# Altium schematic symbol library Inverting buck boost.SchLib: 104 symbols (part 6 of 9)
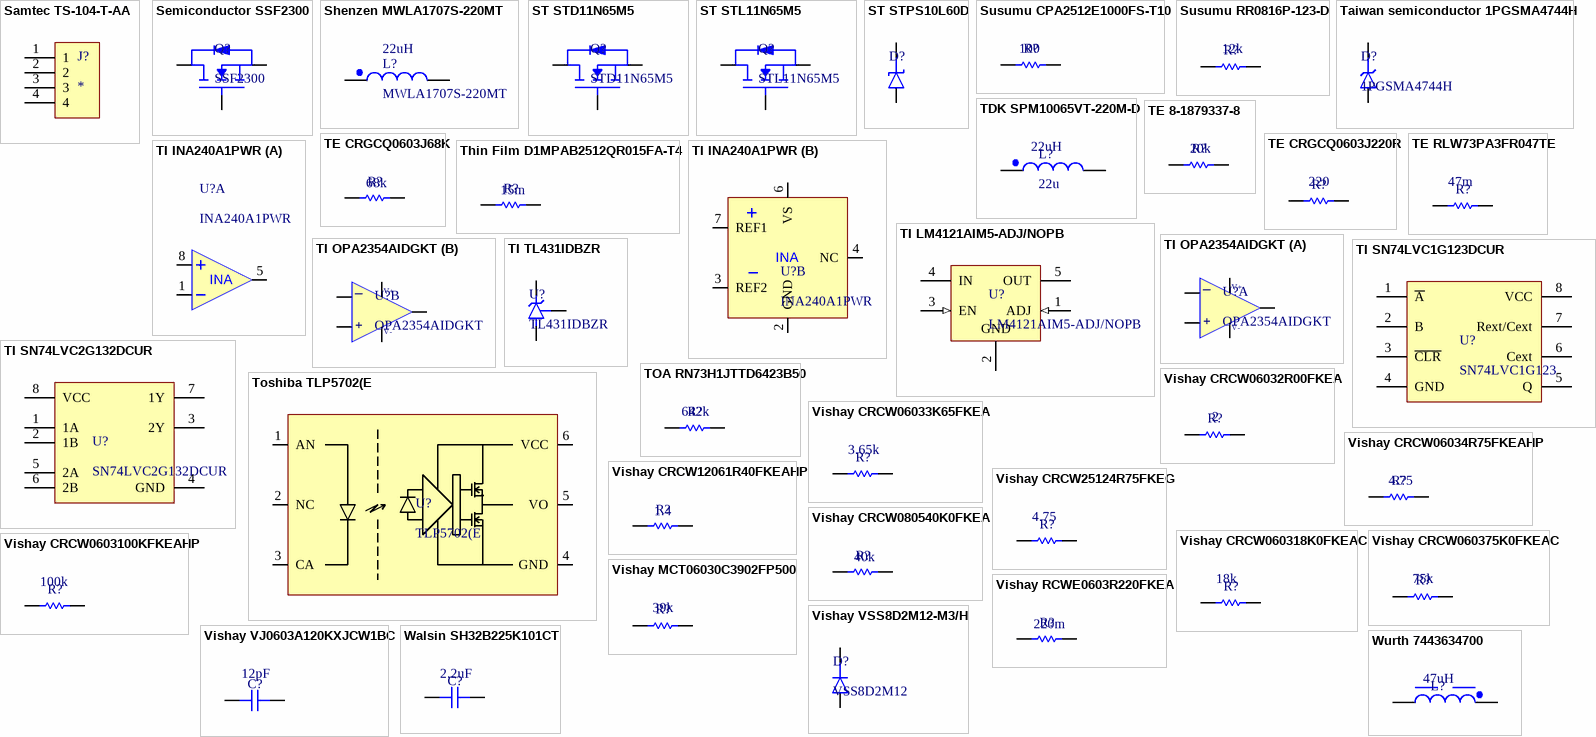
[diagram p7: symbols Samtec TS-104-T-AA to Wurth 7443634700]

## Vishay CRCW06033K65FKEA
designator R?, comment Resistance: 3.65k  (hidden comment: CRCW06033K65FKEA)
Res Thick Film 0603 3.65K Ohm 1% 1/10W ±100ppm/°C Molded SMD Paper T/R; Manufacturer: Vishay; Max Power Dissipation: 100mW; Voltage Rating: 75V; Supplier: Farnell; Supplier Part Number: CRCW06033K65FKEA; Manufacturer Part Number: CRCW06033K65FKEA; RoHS: Compliant; Category: Chip SMD Resistors; Stock: 17428; Pricing: 10=0,0179, 100=0,013, 500=0,0105, 1000=0,0096, 2500=0,0087 (GBP); Case/Package: 0603; Case Code (Imperial): 0603; China RoHS: Non-Compliant; Composition: Thick Film; Contact Plating: Tin; Country of Origin: Israel, Taiwan; Depth: 850µm; Export Control Classification Number (ECCN) Code: EAR99; Features: Automotive AEC-Q200; Height: 450µm; Harmonized Tariff Schedule (HTS) Code: 8533.21.00.30; Introduction Date: 2005-02-16; Lead Free: Lead Free; Length: 1.55mm; Lifecycle Status: Production; Max Operating Temperature: 155°C; Military Standard: Not; Min Operating Temperature: -55°C; Mounting Technology: Surface Mount; Pins: 2; Number of Terminals: 2; Number of Terminations: 2; Power Rating: 100mW; Radiation Hardening: No; Ratings: AEC-Q200; REACH SVHC: Yes; Schedule B: 8533210045, 8533210045|8533210045, 8533210045|8533210045|8533210045, 8533210045|8533210045|8533210045|8533210045; Temperature Coefficient: 100ppm/°C; Termination: SMD/SMT; Tolerance: 1%; Weight: 2.012816mg; Width: 850µm; Working Voltage: 75V; ComponentLink1URL: https://datasheet.octopart.com:443/CRCW06033K65FKEA-Vishay-datasheet-175423584.pdf?src-supplier=IHS; ComponentLink1Description: https://datasheet.octopart.com:443/CRCW06033K65FKEA-Vishay-datasheet-175423584.pdf?src-supplier=IHS; ComponentLink2URL: https://datasheet.octopart.com:443/CRCW06033K65FKEA-Vishay-datasheet-62316122.pdf?src-supplier=Future+Electronics; ComponentLink2Description: https://datasheet.octopart.com:443/CRCW06033K65FKEA-Vishay-datasheet-62316122.pdf?src-supplier=Future+Electronics; ComponentLink3URL: https://datasheet.octopart.com:443/CRCW06033K65FKEA-Vishay-datasheet-5300368.pdf?src-supplier=Future+Electronics; ComponentLink3Description: https://datasheet.octopart.com:443/CRCW06033K65FKEA-Vishay-datasheet-5300368.pdf?src-supplier=Future+Electronics; ComponentLink4URL: https://datasheet.octopart.com:443/CRCW06033K65FKEA-Vishay-datasheet-83961561.pdf?src-supplier=element14+APAC; ComponentLink4Description: https://datasheet.octopart.com:443/CRCW06033K65FKEA-Vishay-datasheet-83961561.pdf?src-supplier=element14+APAC; ComponentLink5URL: https://datasheet.octopart.com:443/CRCW06033K65FKEA-Vishay-datasheet-66077789.pdf?src-supplier=element14+APAC; ComponentLink5Description: https://datasheet.octopart.com:443/CRCW06033K65FKEA-Vishay-datasheet-66077789.pdf?src-supplier=element14+APAC; ComponentLink6URL: https://datasheet.octopart.com:443/CRCW06033K65FKEA-Vishay-datasheet-62317933.pdf?src-supplier=element14+APAC; ComponentLink6Description: https://datasheet.octopart.com:443/CRCW06033K65FKEA-Vishay-datasheet-62317933.pdf?src-supplier=element14+APAC; ComponentLink7URL: https://datasheet.octopart.com:443/CRCW06033K65FKEA-Vishay-datasheet-14722531.pdf?src-supplier=element14+APAC; ComponentLink7Description: https://datasheet.octopart.com:443/CRCW06033K65FKEA-Vishay-datasheet-14722531.pdf?src-supplier=element14+APAC; ComponentLink8URL: https://datasheet.octopart.com:443/CRCW06033K65FKEA-Vishay-datasheet-5299586.pdf?src-supplier=element14+APAC; ComponentLink8Description: https://datasheet.octopart.com:443/CRCW06033K65FKEA-Vishay-datasheet-5299586.pdf?src-supplier=element14+APAC; ComponentLink9URL: https://datasheet.octopart.com:443/CRCW06033K65FKEA-Vishay-datasheet-10380026.pdf?src-supplier=element14+APAC; ComponentLink9Description: https://datasheet.octopart.com:443/CRCW06033K65FKEA-Vishay-datasheet-10380026.pdf?src-supplier=element14+APAC; ComponentLink10URL: https://datasheet.octopart.com:443/CRCW06033K65FKEA.-Vishay-datasheet-78776209.pdf?src-supplier=Newark; ComponentLink10Description: https://datasheet.octopart.com:443/CRCW06033K65FKEA.-Vishay-datasheet-78776209.pdf?src-supplier=Newark; ComponentLink11URL: https://datasheet.octopart.com:443/CRCW06033K65FKEA-Vishay-datasheet-11761042.pdf?src-supplier=Newark; ComponentLink11Description: https://datasheet.octopart.com:443/CRCW06033K65FKEA-Vishay-datasheet-11761042.pdf?src-supplier=Newark; ComponentLink12URL: https://datasheet.octopart.com:443/CRCW06033K65FKEA-Vishay-datasheet-11516975.pdf?src-supplier=Newark; ComponentLink12Description: https://datasheet.octopart.com:443/CRCW06033K65FKEA-Vishay-datasheet-11516975.pdf?src-supplier=Newark; ComponentLink13URL: https://datasheet.octopart.com:443/CRCW06033K65FKEA-Vishay-datasheet-41302739.pdf?src-supplier=Newark; ComponentLink13Description: https://datasheet.octopart.com:443/CRCW06033K65FKEA-Vishay-datasheet-41302739.pdf?src-supplier=Newark; ComponentLink14URL: https://datasheet.octopart.com:443/CRCW06033K65FKEA-Vishay-datasheet-33013972.pdf?src-supplier=Newark; ComponentLink14Description: https://datasheet.octopart.com:443/CRCW06033K65FKEA-Vishay-datasheet-33013972.pdf?src-supplier=Newark; ComponentLink15URL: https://datasheet.octopart.com:443/CRCW06033K65FKEA-Vishay-datasheet-21226360.pdf?src-supplier=Newark; ComponentLink15Description: https://datasheet.octopart.com:443/CRCW06033K65FKEA-Vishay-datasheet-21226360.pdf?src-supplier=Newark; ComponentLink16URL: https://datasheet.octopart.com:443/CRCW06033K65FKEA-Vishay-datasheet-137114303.pdf?src-supplier=X-ON; ComponentLink16Description: https://datasheet.octopart.com:443/CRCW06033K65FKEA-Vishay-datasheet-137114303.pdf?src-supplier=X-ON; ComponentLink17URL: https://datasheet.octopart.com:443/CRCW06033K65FKEA-Vishay-Dale-datasheet-47688880.pdf?src-supplier=RS+(Formerly+Allied+Electronics); ComponentLink17Description: https://datasheet.octopart.com:443/CRCW06033K65FKEA-Vishay-Dale-datasheet-47688880.pdf?src-supplier=RS+(Formerly+Allied+Electronics); ComponentLink18URL: https://datasheet.octopart.com:443/CRCW06033K65FKEA-Vishay-datasheet-12001583.pdf?src-supplier=RS+(Formerly+Allied+Electronics); ComponentLink18Description: https://datasheet.octopart.com:443/CRCW06033K65FKEA-Vishay-datasheet-12001583.pdf?src-supplier=RS+(Formerly+Allied+Electronics); ComponentLink19URL: https://datasheet.octopart.com:443/CRCW06033K65FKEA-Vishay-datasheet-5306405.pdf?src-supplier=RS+(Formerly+Allied+Electronics); ComponentLink19Description: https://datasheet.octopart.com:443/CRCW06033K65FKEA-Vishay-datasheet-5306405.pdf?src-supplier=RS+(Formerly+Allied+Electronics); ComponentLink20URL: https://datasheet.octopart.com/D-CRCW-e3-Standard-Thick-Film-Chip-Resistors-Vishay-datasheet-family-64.pdf; ComponentLink20Description: https://datasheet.octopart.com/D-CRCW-e3-Standard-Thick-Film-Chip-Resistors-Vishay-datasheet-family-64.pdf; ComponentLink21URL: https://datasheet.octopart.com:443/CRCW06033K65FKEA-Vishay-datasheet-11540273.pdf?src-supplier=Arrow+Electronics; ComponentLink21Description: https://datasheet.octopart.com:443/CRCW06033K65FKEA-Vishay-datasheet-11540273.pdf?src-supplier=Arrow+Electronics; ComponentLink22URL: https://datasheet.octopart.com:443/CRCW06033K65FKEA-Vishay-datasheet-8445837.pdf?src-supplier=element14; ComponentLink22Description: https://datasheet.octopart.com:443/CRCW06033K65FKEA-Vishay-datasheet-8445837.pdf?src-supplier=element14; ComponentLink23URL: https://datasheet.octopart.com:443/CRCW06033K65FKEA-Vishay-datasheet-5377433.pdf?src-supplier=Garrett; ComponentLink23Description: https://datasheet.octopart.com:443/CRCW06033K65FKEA-Vishay-datasheet-5377433.pdf?src-supplier=Garrett; ComponentLink24URL: https://datasheet.octopart.com:443/CRCW06033K65FKEA-Vishay-datasheet-148188.pdf?src-supplier=Garrett; ComponentLink24Description: https://datasheet.octopart.com:443/CRCW06033K65FKEA-Vishay-datasheet-148188.pdf?src-supplier=Garrett; ComponentLink25URL: https://datasheet.octopart.com:443/CRCW06033K65FKEA-Vishay-datasheet-30224.pdf?src-supplier=Garrett; ComponentLink25Description: https://datasheet.octopart.com:443/CRCW06033K65FKEA-Vishay-datasheet-30224.pdf?src-supplier=Garrett; ComponentLink26URL: http://sigma.octopart.com:80/rohs_certificate/D-CRCW-e3-Standard-Thick-Film-Chip-Resistors-Vishay-family-102.pdf?src-supplier=Compliance+Statements; ComponentLink26Description: http://sigma.octopart.com:80/rohs_certificate/D-CRCW-e3-Standard-Thick-Film-Chip-Resistors-Vishay-family-102.pdf?src-supplier=Compliance+Statements
footprint res_0603
pins: 1, 2

## Vishay CRCW06034R75FKEAHP
designator R?, comment value 4.75  (hidden comment: CRCW06034R75FKEAHP)
Fixed Resistor, Metal Glaze/thick Film, 0.33W, 4.75ohm, 75V, 1% +/-Tol, 100ppm/Cel, Surface Mount, 0603; Manufacturer: Vishay; Max Power Dissipation: 250mW; Power Rating: 330mW; Temperature Coefficient: 100ppm/°C; Supplier: Future Electronics; Supplier Part Number: CRCW06034R75FKEAHP; Manufacturer Part Number: CRCW06034R75FKEAHP; RoHS: Compliant; Category: Chip SMD Resistors; Stock: 75000; Pricing: 5000=0,0456, 10000=0,0449, 20000=0,0442, 25000=0,044, 75000=0,0426 (USD); Case/Package: 0603; China RoHS: Non-Compliant; Composition: Thick Film; Features: Automotive AEC-Q200; Height: 450µm; Lead Free: Lead Free; Length: 1.6mm; Lifecycle Status: Production; Max Operating Temperature: 155°C; Min Operating Temperature: -55°C; Mounting Technology: Surface Mount; Number of Terminals: 2; Number of Terminations: 2; Packaging: Tape & Reel (TR); Ratings: AEC-Q200; REACH SVHC: Yes; Tolerance: 1%; Voltage Rating: 75V; Width: 850µm; Working Voltage: 75V; ComponentLink1URL: https://datasheet.octopart.com:443/CRCW06034R75FKEAHP-Vishay-datasheet-13148866.pdf?src-supplier=Upverter; ComponentLink1Description: https://datasheet.octopart.com:443/CRCW06034R75FKEAHP-Vishay-datasheet-13148866.pdf?src-supplier=Upverter; ComponentLink2URL: https://datasheet.octopart.com:443/CRCW06034R75FKEAHP-Vishay-datasheet-13131392.pdf?src-supplier=Upverter; ComponentLink2Description: https://datasheet.octopart.com:443/CRCW06034R75FKEAHP-Vishay-datasheet-13131392.pdf?src-supplier=Upverter; ComponentLink3URL: https://datasheet.octopart.com:443/CRCW06034R75FKEAHP-Vishay-datasheet-12593106.pdf?src-supplier=Upverter; ComponentLink3Description: https://datasheet.octopart.com:443/CRCW06034R75FKEAHP-Vishay-datasheet-12593106.pdf?src-supplier=Upverter; ComponentLink4URL: https://datasheet.octopart.com:443/CRCW06034R75FKEAHP-Vishay-datasheet-12544674.pdf?src-supplier=Upverter; ComponentLink4Description: https://datasheet.octopart.com:443/CRCW06034R75FKEAHP-Vishay-datasheet-12544674.pdf?src-supplier=Upverter; ComponentLink5URL: https://datasheet.octopart.com:443/CRCW06034R75FKEAHP-Vishay-datasheet-12531795.pdf?src-supplier=Upverter; ComponentLink5Description: https://datasheet.octopart.com:443/CRCW06034R75FKEAHP-Vishay-datasheet-12531795.pdf?src-supplier=Upverter; ComponentLink6URL: https://datasheet.octopart.com:443/CRCW06034R75FKEAHP-Vishay-datasheet-12518686.pdf?src-supplier=Upverter; ComponentLink6Description: https://datasheet.octopart.com:443/CRCW06034R75FKEAHP-Vishay-datasheet-12518686.pdf?src-supplier=Upverter; ComponentLink7URL: https://datasheet.octopart.com:443/CRCW06034R75FKEAHP-Vishay-datasheet-12509906.pdf?src-supplier=Upverter; ComponentLink7Description: https://datasheet.octopart.com:443/CRCW06034R75FKEAHP-Vishay-datasheet-12509906.pdf?src-supplier=Upverter; ComponentLink8URL: https://datasheet.octopart.com:443/CRCW06034R75FKEAHP-Vishay-datasheet-10669844.pdf?src-supplier=Upverter; ComponentLink8Description: https://datasheet.octopart.com:443/CRCW06034R75FKEAHP-Vishay-datasheet-10669844.pdf?src-supplier=Upverter; ComponentLink9URL: https://datasheet.octopart.com:443/CRCW06034R75FKEAHP-Vishay-datasheet-8703221.pdf?src-supplier=Upverter; ComponentLink9Description: https://datasheet.octopart.com:443/CRCW06034R75FKEAHP-Vishay-datasheet-8703221.pdf?src-supplier=Upverter; ComponentLink10URL: https://datasheet.octopart.com/CRCW06034R75FKEAHP-Vishay-datasheet-83567917.pdf; ComponentLink10Description: https://datasheet.octopart.com/CRCW06034R75FKEAHP-Vishay-datasheet-83567917.pdf; ComponentLink11URL: https://datasheet.octopart.com:443/CRCW06034R75FKEAHP-Vishay-datasheet-62316122.pdf?src-supplier=Future+Electronics; ComponentLink11Description: https://datasheet.octopart.com:443/CRCW06034R75FKEAHP-Vishay-datasheet-62316122.pdf?src-supplier=Future+Electronics; ComponentLink12URL: http://sigma.octopart.com:80/rohs_statement/Vishay-company-15.pdf?src-supplier=Compliance+Statements; ComponentLink12Description: http://sigma.octopart.com:80/rohs_statement/Vishay-company-15.pdf?src-supplier=Compliance+Statements
footprint res_0603
pins: 1, 2

## Vishay CRCW12061R40FKEAHP
designator R?, comment Resistance: 1.4  (hidden comment: CRCW12061R40FKEAHP)
Res Thick Film 1206 1.4 Ohm 1% 0.75W(3/4W) ±100ppm/C Pad SMD Automotive T/R; Manufacturer: Vishay; Max Power Dissipation: 500mW; Power Rating: 750mW; Temperature Coefficient: 100ppm/°C; Voltage Rating: 200V; Supplier: Future Electronics; Supplier Part Number: CRCW12061R40FKEAHP; Manufacturer Part Number: CRCW12061R40FKEAHP; RoHS: Compliant; Category: Chip SMD Resistors; Stock: 5000; Pricing: 5000=0,0554, 10000=0,0545, 15000=0,054, 20000=0,0536, 25000=0,0524 (USD); Case/Package: 1206; Case Code (Imperial): 1206; Case Code (Metric): 3216; China RoHS: Non-Compliant; Composition: Thick Film; Features: Automotive AEC-Q200; Height: 500µm; Lead Free: Lead Free; Length: 3.1mm; Lifecycle Status: Production; Max Operating Temperature: 155°C; Min Operating Temperature: -55°C; Mounting Technology: Surface Mount; Number of Terminals: 2; Number of Terminations: 2; Packaging: Cut Tape (CT); Ratings: AEC-Q200; REACH SVHC: Yes; Schedule B: 8533210045, 8533210045|8533210045|8533210045|8533210045|8533210045; Tolerance: 1%; Width: 1.6mm; Working Voltage: 200V; ComponentLink1URL: https://datasheet.octopart.com:443/CRCW12061R40FKEAHP-Vishay-datasheet-83567917.pdf?src-supplier=Upverter; ComponentLink1Description: https://datasheet.octopart.com:443/CRCW12061R40FKEAHP-Vishay-datasheet-83567917.pdf?src-supplier=Upverter; ComponentLink2URL: https://datasheet.octopart.com:443/CRCW12061R40FKEAHP-Vishay-datasheet-62316122.pdf?src-supplier=Future+Electronics; ComponentLink2Description: https://datasheet.octopart.com:443/CRCW12061R40FKEAHP-Vishay-datasheet-62316122.pdf?src-supplier=Future+Electronics; ComponentLink3URL: https://datasheet.octopart.com/D-CRCW-e3-Standard-Thick-Film-Chip-Resistors-Vishay-datasheet-family-64.pdf; ComponentLink3Description: https://datasheet.octopart.com/D-CRCW-e3-Standard-Thick-Film-Chip-Resistors-Vishay-datasheet-family-64.pdf; ComponentLink4URL: http://sigma.octopart.com:80/rohs_certificate/D-CRCW-e3-Standard-Thick-Film-Chip-Resistors-Vishay-family-102.pdf?src-supplier=Compliance+Statements; ComponentLink4Description: http://sigma.octopart.com:80/rohs_certificate/D-CRCW-e3-Standard-Thick-Film-Chip-Resistors-Vishay-family-102.pdf?src-supplier=Compliance+Statements
footprint res_1206
pins: 1, 2

## Vishay CRCW25124R75FKEG
designator R?, comment Resistance: 4.75  (hidden comment: CRCW25124R75FKEG)
Res Thick Film 2512 4.75 Ohm 1% 1W ±100ppm/C Pad SMD Automotive T/R; Manufacturer: Vishay; Temperature Coefficient: 100ppm/°C; Voltage Rating: 500V; Supplier: Arrow Electronics; Supplier Part Number: CRCW25124R75FKEG; Manufacturer Part Number: CRCW25124R75FKEG; RoHS: Compliant; Category: Chip SMD Resistors; Stock: 5; Pricing: 1=0,0324 (USD); Case/Package: 2512; Case Code (Imperial): 2512; Case Code (Metric): 6432; China RoHS: Non-Compliant; Composition: Thick Film; Contact Plating: Tin; Features: Automotive AEC-Q200; Height: 600µm; Lead Free: Lead Free; Length: 6.3mm; Lifecycle Status: Production; Max Operating Temperature: 155°C; Max Power Dissipation: 1W; Min Operating Temperature: -55°C; Mounting Technology: Surface Mount; Number of Terminals: 2; Number of Terminations: 2; Packaging: Tape & Reel (TR); Power Rating: 1W; Ratings: AEC-Q200; REACH SVHC: Yes; Schedule B: 8533210045, 8533210045|8533210045, 8533210045|8533210045|8533210045, 8533210045|8533210045|8533210045|8533210045; Tolerance: 1%; Width: 3.15mm; Working Voltage: 500V; ComponentLink1URL: https://datasheet.octopart.com:443/CRCW25124R75FKEG-Vishay-datasheet-175423584.pdf?src-supplier=IHS; ComponentLink1Description: https://datasheet.octopart.com:443/CRCW25124R75FKEG-Vishay-datasheet-175423584.pdf?src-supplier=IHS; ComponentLink2URL: https://datasheet.octopart.com:443/CRCW25124R75FKEG-Vishay-datasheet-62316122.pdf?src-supplier=Future+Electronics; ComponentLink2Description: https://datasheet.octopart.com:443/CRCW25124R75FKEG-Vishay-datasheet-62316122.pdf?src-supplier=Future+Electronics; ComponentLink3URL: http://sigma.octopart.com:80/rohs_statement/Vishay-company-15.pdf?src-supplier=Compliance+Statements; ComponentLink3Description: http://sigma.octopart.com:80/rohs_statement/Vishay-company-15.pdf?src-supplier=Compliance+Statements
footprint RES_2510
pins: 1, 2

## Vishay CRCW060318K0FKEAC
designator R?, comment Resistance: 18k  (hidden comment: CRCW060318K0FKEAC)
CRCW Thick Film Commodity Chip Resistor 0603 Size 18K Ohm 1% 0.1 W 100 ppm/K 2-Pin SMD Paper T/R; Manufacturer: Vishay; Power Rating: 100mW; Temperature Coefficient: 100ppm/°C; Working Voltage: 75V; Supplier: Farnell; Supplier Part Number: CRCW060318K0FKEAC; Manufacturer Part Number: CRCW060318K0FKEAC; RoHS: Compliant; Category: Chip SMD Resistors; Stock: 83050; Pricing: 10=0,0129, 100=0,0106, 500=0,0076, 1000=0,0056, 2500=0,0051, 5000=0,0045 (GBP); Case/Package: 0603; China RoHS: Non-Compliant; Height: 450µm; Lead Free: Lead Free; Length: 1.6mm; Lifecycle Status: Production; Max Operating Temperature: 155°C; Min Operating Temperature: -55°C; Mounting Technology: Surface Mount; Number of Terminals: 2; REACH SVHC: Yes; Tolerance: 1%; Width: 800µm; ComponentLink1URL: https://datasheet.octopart.com:443/CRCW060318K0FKEAC-Vishay-datasheet-175423585.pdf?src-supplier=Newark; ComponentLink1Description: https://datasheet.octopart.com:443/CRCW060318K0FKEAC-Vishay-datasheet-175423585.pdf?src-supplier=Newark; ComponentLink2URL: http://sigma.octopart.com:80/rohs_statement/Vishay-company-15.pdf?src-supplier=Compliance+Statements; ComponentLink2Description: http://sigma.octopart.com:80/rohs_statement/Vishay-company-15.pdf?src-supplier=Compliance+Statements
footprint res_0603
pins: 1, 2

## Vishay CRCW060375K0FKEAC
designator R?, comment Resistance: 75k  (hidden comment: CRCW060375K0FKEAC)
Trans Mosfet N-ch 20V 4.5A 3-PIN SOT-23 T/r; Manufacturer: Vishay; Power Rating: 100mW; Temperature Coefficient: 100ppm/°C; Tolerance: 1%; Working Voltage: 75V; Voltage Rating (DC): 50V; Supplier: DigiKey; Supplier Part Number: 541-5552-1-ND; Manufacturer Part Number: CRCW060375K0FKEAC; RoHS: Compliant; Category: Chip SMD Resistors; Stock: 204017; Pricing: 1=0,1, 10=0,031, 25=0,0228, 50=0,0186, 100=0,0152, 250=0,01188, 500=0,010, 1000=0,00851 (USD); Case/Package: 0603; China RoHS: Non-Compliant; Height: 450µm; Lead Free: Lead Free; Length: 1.6mm; Lifecycle Status: Production; Max Operating Temperature: 155°C; Min Operating Temperature: -55°C; Mounting Technology: Surface Mount; Number of Terminals: 2; REACH SVHC: Yes; Schedule B: 8533210045, 8533210045|8533210045|8533210045|8533210045|8533210045; Width: 800µm; ComponentLink1URL: https://datasheet.octopart.com:443/CRCW060375K0FKEAC-Vishay-datasheet-175423585.pdf?src-supplier=Newark; ComponentLink1Description: https://datasheet.octopart.com:443/CRCW060375K0FKEAC-Vishay-datasheet-175423585.pdf?src-supplier=Newark; ComponentLink2URL: https://datasheet.octopart.com:443/CRCW060375K0FKEAC-Vishay-datasheet-100063072.pdf?src-supplier=Future+Electronics; ComponentLink2Description: https://datasheet.octopart.com:443/CRCW060375K0FKEAC-Vishay-datasheet-100063072.pdf?src-supplier=Future+Electronics; ComponentLink3URL: https://datasheet.octopart.com:443/CRCW060375K0FKEAC-Vishay-datasheet-62316122.pdf?src-supplier=Future+Electronics; ComponentLink3Description: https://datasheet.octopart.com:443/CRCW060375K0FKEAC-Vishay-datasheet-62316122.pdf?src-supplier=Future+Electronics; ComponentLink4URL: http://sigma.octopart.com:80/rohs_statement/Vishay-company-15.pdf?src-supplier=Compliance+Statements; ComponentLink4Description: http://sigma.octopart.com:80/rohs_statement/Vishay-company-15.pdf?src-supplier=Compliance+Statements; Case Code (Imperial): 0603; Composition: Thick Film; Contact Plating: Tin; Country of Origin: Mainland China, Taiwan; Depth: 800µm; Export Control Classification Number (ECCN) Code: EAR99; Features: Moisture Resistant; Harmonized Tariff Schedule (HTS) Code: 8533.21.00.30; Introduction Date: 2004-10-04; Max Power Dissipation: 100mW; Military Standard: Not; Pins: 2; Number of Terminations: 2; Packaging: Tape & Reel; Radiation Hardening: No; Termination: SMD/SMT; Voltage Rating: 75V; ComponentLink5URL: https://datasheet.octopart.com:443/RC0603FR-0715KL-Yageo-datasheet-175887523.pdf?src-supplier=Newark; ComponentLink5Description: https://datasheet.octopart.com:443/RC0603FR-0715KL-Yageo-datasheet-175887523.pdf?src-supplier=Newark; ComponentLink6URL: https://datasheet.octopart.com:443/RC0603FR-0715KL-Yageo-datasheet-8328172.pdf?src-supplier=Newark; ComponentLink6Description: https://datasheet.octopart.com:443/RC0603FR-0715KL-Yageo-datasheet-8328172.pdf?src-supplier=Newark; ComponentLink7URL: https://datasheet.octopart.com:443/RC0603FR-0715KL-Yageo-datasheet-62067350.pdf?src-supplier=element14+APAC; ComponentLink7Description: https://datasheet.octopart.com:443/RC0603FR-0715KL-Yageo-datasheet-62067350.pdf?src-supplier=element14+APAC; ComponentLink8URL: https://datasheet.octopart.com:443/RC0603FR-0715KL-Yageo-datasheet-103092701.pdf?src-supplier=Upverter; ComponentLink8Description: https://datasheet.octopart.com:443/RC0603FR-0715KL-Yageo-datasheet-103092701.pdf?src-supplier=Upverter; ComponentLink9URL: https://datasheet.octopart.com:443/RC0603FR-0715KL-Yageo-datasheet-34211833.pdf?src-supplier=Farnell; ComponentLink9Description: https://datasheet.octopart.com:443/RC0603FR-0715KL-Yageo-datasheet-34211833.pdf?src-supplier=Farnell; ComponentLink10URL: https://datasheet.octopart.com:443/RC0603FR-0715KL-Yageo-Group-datasheet-176638170.pdf?src-supplier=Future+Electronics; ComponentLink10Description: https://datasheet.octopart.com:443/RC0603FR-0715KL-Yageo-Group-datasheet-176638170.pdf?src-supplier=Future+Electronics; ComponentLink11URL: https://datasheet.octopart.com:443/RC0603FR-0715KL-Yageo-datasheet-164759695.pdf?src-supplier=Future+Electronics; ComponentLink11Description: https://datasheet.octopart.com:443/RC0603FR-0715KL-Yageo-datasheet-164759695.pdf?src-supplier=Future+Electronics; ComponentLink12URL: https://datasheet.octopart.com:443/RC0603FR-0715KL-Yageo-datasheet-137700087.pdf?src-supplier=Future+Electronics; ComponentLink12Description: https://datasheet.octopart.com:443/RC0603FR-0715KL-Yageo-datasheet-137700087.pdf?src-supplier=Future+Electronics; ComponentLink13URL: https://datasheet.octopart.com:443/RC0603FR-0715KL-Yageo-datasheet-27584510.pdf?src-supplier=Future+Electronics; ComponentLink13Description: https://datasheet.octopart.com:443/RC0603FR-0715KL-Yageo-datasheet-27584510.pdf?src-supplier=Future+Electronics; ComponentLink14URL: https://datasheet.octopart.com:443/RC0603FR-0715KL-Yageo-datasheet-15599030.pdf?src-supplier=Future+Electronics; ComponentLink14Description: https://datasheet.octopart.com:443/RC0603FR-0715KL-Yageo-datasheet-15599030.pdf?src-supplier=Future+Electronics; ComponentLink15URL: https://datasheet.octopart.com:443/RC0603FR-0715KL-Yageo-datasheet-12596169.pdf?src-supplier=Future+Electronics; ComponentLink15Description: https://datasheet.octopart.com:443/RC0603FR-0715KL-Yageo-datasheet-12596169.pdf?src-supplier=Future+Electronics; ComponentLink16URL: https://datasheet.octopart.com:443/RC0603FR-0715KL-Yageo-datasheet-8324193.pdf?src-supplier=Future+Electronics; ComponentLink16Description: https://datasheet.octopart.com:443/RC0603FR-0715KL-Yageo-datasheet-8324193.pdf?src-supplier=Future+Electronics; ComponentLink17URL: https://datasheet.octopart.com/RC0603FR-0715KL-Yageo-datasheet-73766026.pdf; ComponentLink17Description: https://datasheet.octopart.com/RC0603FR-0715KL-Yageo-datasheet-73766026.pdf; ComponentLink18URL: https://datasheet.octopart.com:443/RC0603FR-0715KL-Yageo-datasheet-118562.pdf?src-supplier=DigiKey; ComponentLink18Description: https://datasheet.octopart.com:443/RC0603FR-0715KL-Yageo-datasheet-118562.pdf?src-supplier=DigiKey; ComponentLink19URL: http://sigma.octopart.com:80/conflict_mineral_statement/Yageo-company-3.pdf?src-supplier=Compliance+Statements; ComponentLink19Description: http://sigma.octopart.com:80/conflict_mineral_statement/Yageo-company-3.pdf?src-supplier=Compliance+Statements; ComponentLink20URL: http://sigma.octopart.com:80/rohs_statement/Yageo-company-2.pdf?src-supplier=Compliance+Statements; ComponentLink20Description: http://sigma.octopart.com:80/rohs_statement/Yageo-company-2.pdf?src-supplier=Compliance+Statements
footprint Res_0603
pins: 1, 2

## Vishay CRCW080540K0FKEA
designator R?, comment Resistance: 40k  (hidden comment: CRCW080540K0FKEA)
Res Thick Film 0805 40K Ohm 1% 0.125W(1/8W) ±100ppm/C Pad SMD Automotive T/R; Manufacturer: Vishay; Manufacturer Package Identifier: CRCW0805-e3; Max Power Dissipation: 125mW; Temperature Coefficient: 100ppm/°C; Voltage Rating: 150V; Supplier: Farnell; Supplier Part Number: CRCW080540K0FKEA; Manufacturer Part Number: CRCW080540K0FKEA; RoHS: Compliant; Category: Chip SMD Resistors; Stock: 34055; Pricing: 10=0,0263, 100=0,0218, 500=0,0158, 1000=0,0135, 2500=0,012, 5000=0,0105 (GBP); Case/Package: 0805; China RoHS: Non-Compliant; Composition: Thick Film; Country of Origin: Israel; Export Control Classification Number (ECCN) Code: EAR99; Features: Automotive AEC-Q200; Height: 500µm; Harmonized Tariff Schedule (HTS) Code: 8533.21.00.30; Introduction Date: 2011-07-28; Lead Free: Lead Free; Length: 2.0066mm; Lifecycle Status: Production; Max Operating Temperature: 155°C; Min Operating Temperature: -55°C; Mounting Technology: Surface Mount; Number of Terminals: 2; Number of Terminations: 2; Packaging: Tape & Reel (TR); Power Rating: 125mW; Ratings: AEC-Q200; REACH SVHC: Yes; Tolerance: 1%; Width: 1.2446mm; Working Voltage: 150V; ComponentLink1URL: https://datasheet.octopart.com:443/CRCW080540K0FKEA-Vishay-datasheet-165471749.pdf?src-supplier=IHS; ComponentLink1Description: https://datasheet.octopart.com:443/CRCW080540K0FKEA-Vishay-datasheet-165471749.pdf?src-supplier=IHS; ComponentLink2URL: https://datasheet.octopart.com:443/CRCW080540K0FKEA-Vishay-datasheet-137115111.pdf?src-supplier=X-ON; ComponentLink2Description: https://datasheet.octopart.com:443/CRCW080540K0FKEA-Vishay-datasheet-137115111.pdf?src-supplier=X-ON; ComponentLink3URL: http://sigma.octopart.com:80/rohs_statement/Vishay-company-15.pdf?src-supplier=Compliance+Statements; ComponentLink3Description: http://sigma.octopart.com:80/rohs_statement/Vishay-company-15.pdf?src-supplier=Compliance+Statements
footprint Res_0805
pins: 1, 2

## Vishay CRCW0603100KFKEAHP
designator R?, comment Resistance: 100k  (hidden comment: CRCW0603100KFKEA)
Res Thick Film 0603 100K Ohm 1% 1/3W ±100ppm/°C Molded SMD SMD Paper T/R; Manufacturer: Vishay; Manufacturer Part Number: CRCW0603100KFKEAHP; Max Power Dissipation: 250mW; Power Rating: 330mW; Voltage Rating: 75V; Supplier: RS; Supplier Part Number: 8206745P; RoHS: Compliant; Category: Chip SMD Resistors; Stock: 5725; Pricing: 25=0,036 (EUR); Case/Package: 0603; Case Code (Imperial): 0603; Case Code (Metric): 1608; China RoHS: Non-Compliant; Composition: Thick Film; Contact Plating: Tin; Country of Origin: Israel; Depth: 850µm; Export Control Classification Number (ECCN) Code: EAR99; Features: Automotive AEC-Q200; Height: 450µm; Harmonized Tariff Schedule (HTS) Code: 8533.21.00.30; Introduction Date: 2008-07-29; Lead Free: Lead Free; Length: 1.6mm; Lifecycle Status: Production; Max Operating Temperature: 155°C; Military Standard: Not; Min Operating Temperature: -55°C; Mounting Technology: Surface Mount; Pins: 2; Number of Terminals: 2; Number of Terminations: 2; Packaging: Cut Tape; Radiation Hardening: No; Ratings: AEC-Q200; REACH SVHC: Yes; Schedule B: 8533210045, 8533210045|8533210045|8533210045|8533210045|8533210045; Temperature Coefficient: 100ppm/°C; Termination: SMD/SMT; Tolerance: 1%; Voltage Rating (DC): 75V; Weight: 2.012816mg; Width: 850µm; Working Voltage: 75V; ComponentLink1URL: https://datasheet.octopart.com:443/CRCW0603100KFKEAHP-Vishay-datasheet-13148866.pdf?src-supplier=Future+Electronics; ComponentLink1Description: https://datasheet.octopart.com:443/CRCW0603100KFKEAHP-Vishay-datasheet-13148866.pdf?src-supplier=Future+Electronics; ComponentLink2URL: https://datasheet.octopart.com:443/CRCW0603100KFKEAHP-Vishay-datasheet-13131392.pdf?src-supplier=Future+Electronics; ComponentLink2Description: https://datasheet.octopart.com:443/CRCW0603100KFKEAHP-Vishay-datasheet-13131392.pdf?src-supplier=Future+Electronics; ComponentLink3URL: https://datasheet.octopart.com:443/CRCW0603100KFKEAHP-Vishay-datasheet-12593106.pdf?src-supplier=Future+Electronics; ComponentLink3Description: https://datasheet.octopart.com:443/CRCW0603100KFKEAHP-Vishay-datasheet-12593106.pdf?src-supplier=Future+Electronics; ComponentLink4URL: https://datasheet.octopart.com:443/CRCW0603100KFKEAHP-Vishay-datasheet-12531795.pdf?src-supplier=Future+Electronics; ComponentLink4Description: https://datasheet.octopart.com:443/CRCW0603100KFKEAHP-Vishay-datasheet-12531795.pdf?src-supplier=Future+Electronics; ComponentLink5URL: https://datasheet.octopart.com:443/CRCW0603100KFKEAHP-Vishay-datasheet-12518686.pdf?src-supplier=Future+Electronics; ComponentLink5Description: https://datasheet.octopart.com:443/CRCW0603100KFKEAHP-Vishay-datasheet-12518686.pdf?src-supplier=Future+Electronics; ComponentLink6URL: https://datasheet.octopart.com:443/CRCW0603100KFKEAHP-Vishay-datasheet-12509906.pdf?src-supplier=Future+Electronics; ComponentLink6Description: https://datasheet.octopart.com:443/CRCW0603100KFKEAHP-Vishay-datasheet-12509906.pdf?src-supplier=Future+Electronics; ComponentLink7URL: https://datasheet.octopart.com:443/CRCW0603100KFKEAHP-Vishay-datasheet-10669844.pdf?src-supplier=Future+Electronics; ComponentLink7Description: https://datasheet.octopart.com:443/CRCW0603100KFKEAHP-Vishay-datasheet-10669844.pdf?src-supplier=Future+Electronics; ComponentLink8URL: https://datasheet.octopart.com:443/CRCW0603100KFKEAHP-Vishay-datasheet-8703221.pdf?src-supplier=Future+Electronics; ComponentLink8Description: https://datasheet.octopart.com:443/CRCW0603100KFKEAHP-Vishay-datasheet-8703221.pdf?src-supplier=Future+Electronics; ComponentLink9URL: https://datasheet.octopart.com:443/CRCW0603100KFKEAHP-Vishay-datasheet-62316122.pdf?src-supplier=Future+Electronics; ComponentLink9Description: https://datasheet.octopart.com:443/CRCW0603100KFKEAHP-Vishay-datasheet-62316122.pdf?src-supplier=Future+Electronics; ComponentLink10URL: https://datasheet.octopart.com:443/CRCW0603100KFKEAHP-Vishay-datasheet-12544674.pdf?src-supplier=_legacy+Avnet; ComponentLink10Description: https://datasheet.octopart.com:443/CRCW0603100KFKEAHP-Vishay-datasheet-12544674.pdf?src-supplier=_legacy+Avnet; ComponentLink11URL: https://datasheet.octopart.com:443/CRCW0603100KFKEAHP-Vishay-datasheet-87136057.pdf?src-supplier=Newark; ComponentLink11Description: https://datasheet.octopart.com:443/CRCW0603100KFKEAHP-Vishay-datasheet-87136057.pdf?src-supplier=Newark; ComponentLink12URL: https://datasheet.octopart.com:443/CRCW0603100KFKEAHP-Vishay-datasheet-66581887.pdf?src-supplier=Newark; ComponentLink12Description: https://datasheet.octopart.com:443/CRCW0603100KFKEAHP-Vishay-datasheet-66581887.pdf?src-supplier=Newark; ComponentLink13URL: https://datasheet.octopart.com:443/CRCW0603100KFKEAHP-Vishay-datasheet-37143532.pdf?src-supplier=Newark; ComponentLink13Description: https://datasheet.octopart.com:443/CRCW0603100KFKEAHP-Vishay-datasheet-37143532.pdf?src-supplier=Newark; ComponentLink14URL: https://datasheet.octopart.com:443/CRCW0603100KFKEAHP-Vishay-datasheet-8359436.pdf?src-supplier=Newark; ComponentLink14Description: https://datasheet.octopart.com:443/CRCW0603100KFKEAHP-Vishay-datasheet-8359436.pdf?src-supplier=Newark; ComponentLink15URL: https://datasheet.octopart.com:443/CRCW0603100KFKEAHP-Vishay-datasheet-112276998.pdf?src-supplier=Newark; ComponentLink15Description: https://datasheet.octopart.com:443/CRCW0603100KFKEAHP-Vishay-datasheet-112276998.pdf?src-supplier=Newark; ComponentLink16URL: https://datasheet.octopart.com:443/CRCW0603100KFKEAHP-Vishay-datasheet-62317933.pdf?src-supplier=element14+APAC; ComponentLink16Description: https://datasheet.octopart.com:443/CRCW0603100KFKEAHP-Vishay-datasheet-62317933.pdf?src-supplier=element14+APAC; ComponentLink17URL: https://datasheet.octopart.com/CRCW0603100KFKEAHP-Vishay-datasheet-83567917.pdf; ComponentLink17Description: https://datasheet.octopart.com/CRCW0603100KFKEAHP-Vishay-datasheet-83567917.pdf; ComponentLink18URL: https://datasheet.octopart.com:443/CRCW0603100KFKEAHP-Vishay-Dale-datasheet-47688881.pdf?src-supplier=RS+(Formerly+Allied+Electronics); ComponentLink18Description: https://datasheet.octopart.com:443/CRCW0603100KFKEAHP-Vishay-Dale-datasheet-47688881.pdf?src-supplier=RS+(Formerly+Allied+Electronics); ComponentLink19URL: http://sigma.octopart.com:80/rohs_statement/Vishay-company-15.pdf?src-supplier=Compliance+Statements; ComponentLink19Description: http://sigma.octopart.com:80/rohs_statement/Vishay-company-15.pdf?src-supplier=Compliance+Statements
footprint res_0603
pins: 1, 2

## Vishay MCT06030C3902FP500
designator R?, comment value 39k  (hidden comment: MCT06030C3902FP500)
Res Thin Film 0603 39K Ohm 1% 1/10W ±50ppm/°C Molded SMD SMD Paper T/R; Manufacturer: Vishay; Max Power Dissipation: 125mW; Power Rating: 100mW; Voltage Rating: 75V; Supplier: Farnell; Supplier Part Number: MCT06030C3902FP500; Manufacturer Part Number: MCT06030C3902FP500; RoHS: Compliant; Category: Chip SMD Resistors; Stock: 25735; Pricing: 10=0,0241, 100=0,0174, 500=0,0153, 1000=0,0138, 2500=0,0136, 5000=0,0129 (GBP); Case/Package: 0603; Case Code (Imperial): 0603; Case Code (Metric): 1608; China RoHS: Non-Compliant; Composition: Thin Film; Contact Plating: Tin; Country of Origin: Germany, Israel; Depth: 850µm; Export Control Classification Number (ECCN) Code: EAR99; Height: 450µm; Harmonized Tariff Schedule (HTS) Code: 8533.21.00.30; Introduction Date: 2008-03-17; Lead Free: Lead Free; Length: 1.55mm; Lifecycle Status: Production; Max Operating Temperature: 125°C; Military Standard: Not; Min Operating Temperature: -55°C; Mounting Technology: Surface Mount; Number of Terminals: 2; Number of Terminations: 2; Radiation Hardening: No; REACH SVHC: Yes; Schedule B: 8533210045; Temperature Coefficient: 50ppm/°C; Tolerance: 1%; Voltage Rating (DC): 75V; Width: 850µm; Working Voltage: 75V; ComponentLink1URL: https://datasheet.octopart.com:443/MCT06030C3902FP500-Vishay-datasheet-182027961.pdf?src-supplier=IHS; ComponentLink1Description: https://datasheet.octopart.com:443/MCT06030C3902FP500-Vishay-datasheet-182027961.pdf?src-supplier=IHS; ComponentLink2URL: https://datasheet.octopart.com:443/MCT06030C3902FP500-Vishay-datasheet-81842982.pdf?src-supplier=Upverter; ComponentLink2Description: https://datasheet.octopart.com:443/MCT06030C3902FP500-Vishay-datasheet-81842982.pdf?src-supplier=Upverter; ComponentLink3URL: https://datasheet.octopart.com:443/MCT06030C3902FP500-Vishay-datasheet-165827201.pdf?src-supplier=Newark; ComponentLink3Description: https://datasheet.octopart.com:443/MCT06030C3902FP500-Vishay-datasheet-165827201.pdf?src-supplier=Newark; ComponentLink4URL: https://datasheet.octopart.com:443/MCT06030C3902FP500-Vishay-datasheet-66078241.pdf?src-supplier=Newark; ComponentLink4Description: https://datasheet.octopart.com:443/MCT06030C3902FP500-Vishay-datasheet-66078241.pdf?src-supplier=Newark; ComponentLink5URL: https://datasheet.octopart.com:443/MCT06030C3902FP500-Vishay-datasheet-57863180.pdf?src-supplier=Future+Electronics; ComponentLink5Description: https://datasheet.octopart.com:443/MCT06030C3902FP500-Vishay-datasheet-57863180.pdf?src-supplier=Future+Electronics; ComponentLink6URL: https://datasheet.octopart.com/MCT06030C3902FP500-Vishay-datasheet-12543201.pdf; ComponentLink6Description: https://datasheet.octopart.com/MCT06030C3902FP500-Vishay-datasheet-12543201.pdf; ComponentLink7URL: https://datasheet.octopart.com/MCT06030C3902FP500-Vishay-datasheet-12532999.pdf; ComponentLink7Description: https://datasheet.octopart.com/MCT06030C3902FP500-Vishay-datasheet-12532999.pdf; ComponentLink8URL: https://datasheet.octopart.com/MCT06030C3902FP500-Vishay-datasheet-12520289.pdf; ComponentLink8Description: https://datasheet.octopart.com/MCT06030C3902FP500-Vishay-datasheet-12520289.pdf; ComponentLink9URL: https://datasheet.octopart.com/MCT06030C3902FP500-Vishay-datasheet-12510709.pdf; ComponentLink9Description: https://datasheet.octopart.com/MCT06030C3902FP500-Vishay-datasheet-12510709.pdf; ComponentLink10URL: https://datasheet.octopart.com:443/MCT06030C3902FP500-Vishay-datasheet-166298980.pdf?src-supplier=Burklin+Elektronik; ComponentLink10Description: https://datasheet.octopart.com:443/MCT06030C3902FP500-Vishay-datasheet-166298980.pdf?src-supplier=Burklin+Elektronik; ComponentLink11URL: http://sigma.octopart.com:80/rohs_statement/Vishay-company-15.pdf?src-supplier=Compliance+Statements; ComponentLink11Description: http://sigma.octopart.com:80/rohs_statement/Vishay-company-15.pdf?src-supplier=Compliance+Statements
footprint res_0603
pins: 1, 2

## Vishay RCWE0603R220FKEA
designator R?, comment Resistance: 220m  (hidden comment: RCWE0603R220FKEA)
Res Thick Film 0603 0.22 Ohm 1% 1/5W ±100ppm/°C Molded SMD SMD Punched Paper T/R; Manufacturer: Vishay; Max Power Dissipation: 200mW; Working Voltage: 209.8mV; Supplier: Farnell; Supplier Part Number: RCWE0603R220FKEA; Manufacturer Part Number: RCWE0603R220FKEA; RoHS: Compliant; Category: Chip SMD Resistors; Stock: 7020; Pricing: 10=0,283, 100=0,234, 500=0,218, 1000=0,182, 2500=0,167, 5000=0,155 (GBP); Case/Package: 0603; Case Code (Imperial): 0603; Case Code (Metric): 1608; China RoHS: Non-Compliant; Composition: Thick Film; Contact Plating: Tin; Depth: 850µm; Export Control Classification Number (ECCN) Code: EAR99; Features: Automotive AEC-Q200, Moisture Resistant; Height: 500µm; Harmonized Tariff Schedule (HTS) Code: 8533.21.00.30; Introduction Date: 2009-12-08; Length: 1.6mm; Lifecycle Status: Production; Max Operating Temperature: 155°C; Military Standard: Not; Min Operating Temperature: -55°C; Mounting Technology: Surface Mount; Pins: 2; Number of Terminals: 2; Number of Terminations: 2; Power Rating: 200mW; Radiation Hardening: No; Ratings: AEC-Q200; REACH SVHC: Yes; Schedule B: 8533210045, 8533210045|8533210045|8533210045|8533210045|8533210045; Temperature Coefficient: 100ppm/°C; Termination: SMD/SMT; Tolerance: 1%; Width: 850µm; ComponentLink1URL: https://datasheet.octopart.com:443/RCWE0603R220FKEA-Vishay-datasheet-170667730.pdf?src-supplier=IHS; ComponentLink1Description: https://datasheet.octopart.com:443/RCWE0603R220FKEA-Vishay-datasheet-170667730.pdf?src-supplier=IHS; ComponentLink2URL: https://datasheet.octopart.com:443/RCWE0603R220FKEA-Vishay-datasheet-62321200.pdf?src-supplier=Farnell; ComponentLink2Description: https://datasheet.octopart.com:443/RCWE0603R220FKEA-Vishay-datasheet-62321200.pdf?src-supplier=Farnell; ComponentLink3URL: https://datasheet.octopart.com:443/RCWE0603R220FKEA-Vishay-datasheet-10025643.pdf?src-supplier=element14+APAC; ComponentLink3Description: https://datasheet.octopart.com:443/RCWE0603R220FKEA-Vishay-datasheet-10025643.pdf?src-supplier=element14+APAC; ComponentLink4URL: https://datasheet.octopart.com:443/RCWE0603R220FKEA-Vishay-datasheet-13263558.pdf?src-supplier=Future+Electronics; ComponentLink4Description: https://datasheet.octopart.com:443/RCWE0603R220FKEA-Vishay-datasheet-13263558.pdf?src-supplier=Future+Electronics; ComponentLink5URL: https://datasheet.octopart.com:443/RCWE0603R220FKEA-Vishay-datasheet-13248156.pdf?src-supplier=Future+Electronics; ComponentLink5Description: https://datasheet.octopart.com:443/RCWE0603R220FKEA-Vishay-datasheet-13248156.pdf?src-supplier=Future+Electronics; ComponentLink6URL: https://datasheet.octopart.com:443/RCWE0603R220FKEA-Vishay-datasheet-12556293.pdf?src-supplier=Future+Electronics; ComponentLink6Description: https://datasheet.octopart.com:443/RCWE0603R220FKEA-Vishay-datasheet-12556293.pdf?src-supplier=Future+Electronics; ComponentLink7URL: https://datasheet.octopart.com:443/RCWE0603R220FKEA-Vishay-datasheet-12513971.pdf?src-supplier=Future+Electronics; ComponentLink7Description: https://datasheet.octopart.com:443/RCWE0603R220FKEA-Vishay-datasheet-12513971.pdf?src-supplier=Future+Electronics; ComponentLink8URL: http://sigma.octopart.com:80/rohs_statement/Vishay-company-15.pdf?src-supplier=Compliance+Statements; ComponentLink8Description: http://sigma.octopart.com:80/rohs_statement/Vishay-company-15.pdf?src-supplier=Compliance+Statements
footprint res_0603
pins: 1, 2

## Vishay VJ0603A120KXJCW1BC
designator C?, comment Capacitance: 12pF  (hidden comment: VJ0603A120KXJCW1BC)
Ceramic Capacitor, Multilayer, Ceramic, 16V, 10% +Tol, 10% -Tol, C0G, 30ppm/Cel TC, 0.000012uF, Surface Mount, 0603; Manufacturer: Vishay; Supplier: DigiKey; Supplier Part Number: 720-VJ0603A120KXJCW1BCCT-ND; Manufacturer Part Number: VJ0603A120KXJCW1BC; RoHS: Compliant; Category: Ceramic Capacitors; Stock: 710; Pricing: 1=0,11, 10=0,059, 50=0,0408, 100=0,0353, 500=0,02592, 1000=0,02304 (USD); Case/Package: 0603; Case Code (Imperial): 0603; Case Code (Metric): 1608; China RoHS: Compliant; Depth: 800µm; Dielectric: C0G; Dielectric Material: Ceramic; Export Control Classification Number (ECCN) Code: EAR99; Height: 870µm; Harmonized Tariff Schedule (HTS) Code: 8532.24.00.20; Lead Free: Lead Free; Length: 1.6mm; Lifecycle Status: Production; Max Operating Temperature: 125°C; Min Operating Temperature: -55°C; Mounting Technology: Surface Mount; Number of Terminals: 2; REACH SVHC: Yes; Termination: SMD/SMT; Tolerance: 10%; Voltage Rating (DC): 16V; Weight: 2.012816mg; Width: 800µm; ComponentLink1URL: https://datasheet.octopart.com:443/VJ0603A120KXJCW1BC-Vishay-datasheet-182138897.pdf?src-supplier=IHS; ComponentLink1Description: https://datasheet.octopart.com:443/VJ0603A120KXJCW1BC-Vishay-datasheet-182138897.pdf?src-supplier=IHS; ComponentLink2URL: https://datasheet.octopart.com:443/VJ0603A120KXJCW1BC-Vishay-datasheet-182137606.pdf?src-supplier=IHS; ComponentLink2Description: https://datasheet.octopart.com:443/VJ0603A120KXJCW1BC-Vishay-datasheet-182137606.pdf?src-supplier=IHS; ComponentLink3URL: https://datasheet.octopart.com/VJ0603A120KXJCW1BC-Vishay-datasheet-13530908.pdf; ComponentLink3Description: https://datasheet.octopart.com/VJ0603A120KXJCW1BC-Vishay-datasheet-13530908.pdf; ComponentLink4URL: https://datasheet.octopart.com/VJ0603A120KXJCW1BC-Vishay-datasheet-13436109.pdf; ComponentLink4Description: https://datasheet.octopart.com/VJ0603A120KXJCW1BC-Vishay-datasheet-13436109.pdf; ComponentLink5URL: https://datasheet.octopart.com/VJ0603A120KXJCW1BC-Vishay-datasheet-13168783.pdf; ComponentLink5Description: https://datasheet.octopart.com/VJ0603A120KXJCW1BC-Vishay-datasheet-13168783.pdf; ComponentLink6URL: https://datasheet.octopart.com/VJ0603A120KXJCW1BC-Vishay-datasheet-13134009.pdf; ComponentLink6Description: https://datasheet.octopart.com/VJ0603A120KXJCW1BC-Vishay-datasheet-13134009.pdf; ComponentLink7URL: https://datasheet.octopart.com/VJ0603A120KXJCW1BC-Vishay-datasheet-13055807.pdf; ComponentLink7Description: https://datasheet.octopart.com/VJ0603A120KXJCW1BC-Vishay-datasheet-13055807.pdf; ComponentLink8URL: https://datasheet.octopart.com/VJ0603A120KXJCW1BC-Vishay-datasheet-13029350.pdf; ComponentLink8Description: https://datasheet.octopart.com/VJ0603A120KXJCW1BC-Vishay-datasheet-13029350.pdf; ComponentLink9URL: https://datasheet.octopart.com/VJ0603A120KXJCW1BC-Vishay-datasheet-12584848.pdf; ComponentLink9Description: https://datasheet.octopart.com/VJ0603A120KXJCW1BC-Vishay-datasheet-12584848.pdf; ComponentLink10URL: https://datasheet.octopart.com/VJ0603A120KXJCW1BC-Vishay-datasheet-12543093.pdf; ComponentLink10Description: https://datasheet.octopart.com/VJ0603A120KXJCW1BC-Vishay-datasheet-12543093.pdf; ComponentLink11URL: https://datasheet.octopart.com/VJ0603A120KXJCW1BC-Vishay-datasheet-12532924.pdf; ComponentLink11Description: https://datasheet.octopart.com/VJ0603A120KXJCW1BC-Vishay-datasheet-12532924.pdf; ComponentLink12URL: https://datasheet.octopart.com/VJ0603A120KXJCW1BC-Vishay-datasheet-12519409.pdf; ComponentLink12Description: https://datasheet.octopart.com/VJ0603A120KXJCW1BC-Vishay-datasheet-12519409.pdf; ComponentLink13URL: https://datasheet.octopart.com/VJ0603A120KXJCW1BC-Vishay-datasheet-12509873.pdf; ComponentLink13Description: https://datasheet.octopart.com/VJ0603A120KXJCW1BC-Vishay-datasheet-12509873.pdf; ComponentLink14URL: https://datasheet.octopart.com/VJ....W1BC-Basic-Commodity-Series-Vishay-datasheet-family-113.pdf; ComponentLink14Description: https://datasheet.octopart.com/VJ....W1BC-Basic-Commodity-Series-Vishay-datasheet-family-113.pdf; ComponentLink15URL: http://sigma.octopart.com:80/rohs_statement/VJ....W1BC-Basic-Commodity-Series-Vishay-family-122.pdf?src-supplier=Compliance+Statements; ComponentLink15Description: http://sigma.octopart.com:80/rohs_statement/VJ....W1BC-Basic-Commodity-Series-Vishay-family-122.pdf?src-supplier=Compliance+Statements
footprint cap_0603
pins: 1, 2

## Vishay VSS8D2M12-M3/H
designator D?, comment VSS8D2M12
Rectifier Diode, Schottky, 1 Phase, 1 Element, 2A, 120V V(RRM), Silicon, DO-221AD; Manufacturer: Vishay; Manufacturer Part Number: VSS8D2M12-M3/H; Forward Voltage: 810mV; Max Forward Surge Current (Ifsm): 50A; Number of Elements: 1; Peak Reverse Current: 250µA; Supplier: RS; Supplier Part Number: 2190367; RoHS: Compliant; Category: Rectifier Diodes; Stock: 13750; Pricing: 50=0,204 (EUR); Lifecycle Status: Production; Max Operating Temperature: 175°C; Max Output current: 2A; Min Operating Temperature: -40°C; Number of Terminals: 2; Reverse Standoff Voltage: 120V; ComponentLink1URL: https://datasheet.octopart.com:443/VSS8D2M12-M3-H-Vishay-datasheet-181480222.pdf?src-supplier=Newark; ComponentLink1Description: https://datasheet.octopart.com:443/VSS8D2M12-M3-H-Vishay-datasheet-181480222.pdf?src-supplier=Newark; ComponentLink2URL: http://sigma.octopart.com:80/rohs_statement/Vishay-company-15.pdf?src-supplier=Compliance+Statements; ComponentLink2Description: http://sigma.octopart.com:80/rohs_statement/Vishay-company-15.pdf?src-supplier=Compliance+Statements
footprint DO-221AD
pins: A, C

## Walsin SH32B225K101CT
designator C?, comment Capacitance: 2.2uF  (hidden comment: SH32B225K101CT)
MLCC 2.2UF 100V X7R 1210 / 2.2 µF ±10% 100V Ceramic Capacitor X7R 1210 (3225 Metric); Manufacturer: Walsin Technologies; Supplier: DigiKey; Supplier Part Number: 1292-SH32B225K101CT-ND; Manufacturer Part Number: SH32B225K101CT; RoHS: Compliant; Category: Ceramic Capacitors; Stock: 1716; Pricing: 1=0,32, 10=0,187, 50=0,136, 100=0,1204, 500=0,09428 (USD); Case/Package: 1210; China RoHS: Compliant; Dielectric Material: Ceramic; Height: 2.5mm; Length: 3.2mm; Lifecycle Status: Production; Max Operating Temperature: 125°C; Min Operating Temperature: -55°C; Mounting Technology: Surface Mount; Number of Terminals: 2; REACH SVHC: Yes; Voltage Rating (DC): 100V; Width: 2.5mm; ComponentLink1URL: https://datasheet.octopart.com:443/SH32B225K101CT-Walsin-Technologies-datasheet-182139269.pdf?src-supplier=IHS; ComponentLink1Description: https://datasheet.octopart.com:443/SH32B225K101CT-Walsin-Technologies-datasheet-182139269.pdf?src-supplier=IHS; ComponentLink2URL: https://datasheet.octopart.com:443/SH32B225K101CT-Walsin-Technologies-datasheet-149178370.pdf?src-supplier=ODG+(Origin+Data+Global); ComponentLink2Description: https://datasheet.octopart.com:443/SH32B225K101CT-Walsin-Technologies-datasheet-149178370.pdf?src-supplier=ODG+(Origin+Data+Global); ComponentLink3URL: https://datasheet.octopart.com:443/SH32B225K101CT-Walsin-Technologies-datasheet-188933659.pdf?src-supplier=TME; ComponentLink3Description: https://datasheet.octopart.com:443/SH32B225K101CT-Walsin-Technologies-datasheet-188933659.pdf?src-supplier=TME; ComponentLink4URL: https://datasheet.octopart.com:443/SH32B225K101CT-Walsin-Technologies-datasheet-161980613.pdf?src-supplier=Future+Electronics; ComponentLink4Description: https://datasheet.octopart.com:443/SH32B225K101CT-Walsin-Technologies-datasheet-161980613.pdf?src-supplier=Future+Electronics
footprint Cap_1210
pins: 1, 2